# Altium schematic symbol library 217183-0001.SchLib: 1 symbol
Pins are listed as number, name and electrical type; pins without a type are passive.

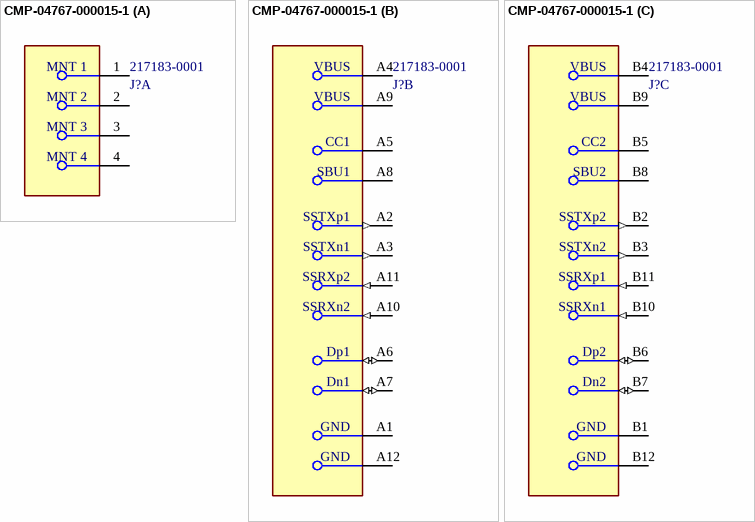
[diagram p0: symbol CMP-04767-000015-1]

## CMP-04767-000015-1
designator J?, comment 217183-0001
TOP-MOUNT HYBRID 24POS (TYPE C R
footprint FP-217183-0001-MFG
part A pins: 1 MNT 1, 2 MNT 2, 3 MNT 3, 4 MNT 4
part B pins: A1 GND (power), A2 SSTXp1 (out), A3 SSTXn1 (out), A4 VBUS (power), A5 CC1, A6 Dp1 (io), A7 Dn1 (io), A8 SBU1, A9 VBUS (power), A10 SSRXn2 (in), A11 SSRXp2 (in), A12 GND (power)
part C pins: B1 GND (power), B2 SSTXp2 (out), B3 SSTXn2 (out), B4 VBUS (power), B5 CC2, B6 Dp2 (io), B7 Dn2 (io), B8 SBU2, B9 VBUS (power), B10 SSRXn1 (in), B11 SSRXp1 (in), B12 GND (power)